# Altium schematic symbol library BC55-16PAS-QX.Schlib: 1 symbol
Pins are listed as number, name and electrical type; pins without a type are passive.

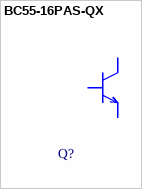
[diagram p0: symbol BC55-16PAS-QX]

## BC55-16PAS-QX
designator Q?
60V 1A NPN
pins: 1 B, 2 E, 3 C